# Altium schematic symbol library USB2514B-AEZC.Schlib: 1 symbol
Pins are listed as number, name and electrical type; pins without a type are passive.

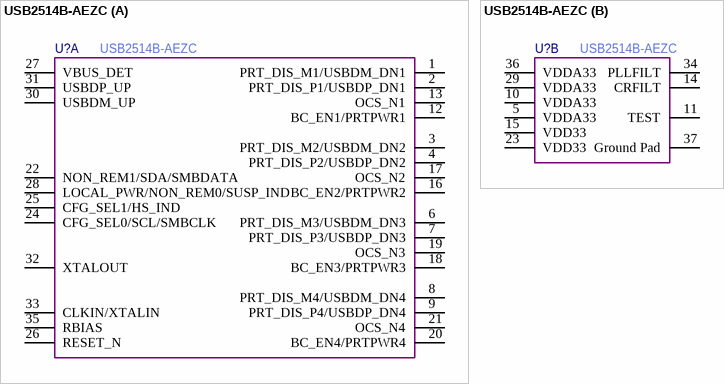
[diagram p0: symbol USB2514B-AEZC]

## USB2514B-AEZC
designator U?
Manufacturer Part Number: USB2514B-AEZC
part A pins: 1 PRT_DIS_M1/USBDM_DN1, 2 PRT_DIS_P1/USBDP_DN1, 3 PRT_DIS_M2/USBDM_DN2, 4 PRT_DIS_P2/USBDP_DN2, 6 PRT_DIS_M3/USBDM_DN3, 7 PRT_DIS_P3/USBDP_DN3, 8 PRT_DIS_M4/USBDM_DN4, 9 PRT_DIS_P4/USBDP_DN4, 12 BC_EN1/PRTPWR1, 13 OCS_N1, 16 BC_EN2/PRTPWR2, 17 OCS_N2, 18 BC_EN3/PRTPWR3, 19 OCS_N3, 20 BC_EN4/PRTPWR4, 21 OCS_N4, 22 NON_REM1/SDA/SMBDATA, 24 CFG_SEL0/SCL/SMBCLK, 25 CFG_SEL1/HS_IND, 26 RESET_N, 27 VBUS_DET, 28 LOCAL_PWR/NON_REM0/SUSP_IND, 30 USBDM_UP, 31 USBDP_UP, 32 XTALOUT, 33 CLKIN/XTALIN, 35 RBIAS
part B pins: 5 VDDA33, 10 VDDA33, 11 TEST, 14 CRFILT, 15 VDD33, 23 VDD33, 29 VDDA33, 34 PLLFILT, 36 VDDA33, 37 Ground Pad